# Altium schematic symbol library 2328702-4.SchLib: 1 symbol
Pins are listed as number, name and electrical type; pins without a type are passive.

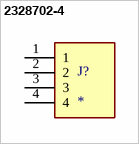
[diagram p0: symbol 2328702-4]

## 2328702-4
designator J?
4 Position FPC Connector Contacts, Top and Bottom 0.020 (0.50mm) Surface Mount, Right Angle; MF: TE Connectivity AMP Connectors; MP: 2328702-4; Package: None; Price: None; Check_prices: https://www.snapeda.com/parts/2328702-4/TE+Connectivity/view-part/?ref=eda; Value: *; SnapEDA_Link: https://www.snapeda.com/parts/2328702-4/TE+Connectivity/view-part/?ref=snap; Availability: In Stock; Purchase-URL: https://pricing.snapeda.com/search?q=2328702-4&ref=eda
footprint TE_2328702-4
pins: 1, 2, 3, 4